# Altium footprint library 7Sigma.PcbLib: 1 footprints
Each footprint in its own frame and in the unit in brackets; x right, y up, seen from the top. Pads: shape width x height; smd on the part's side, far side on the other; paste and mask are expansions set on the pad; w line width, h text height; cw(c..) or ccw(c..) is an arc to the next point about the centre after c.
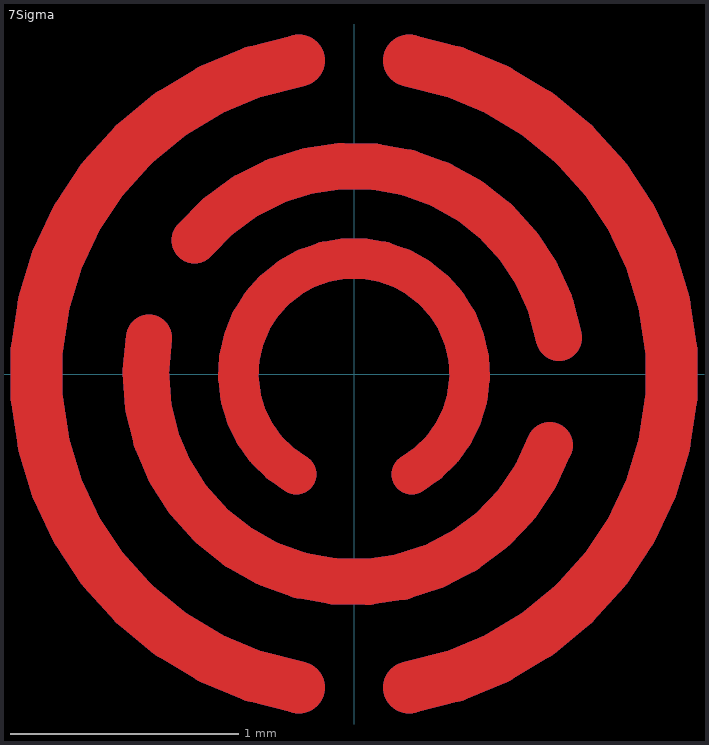
[diagram p0: the footprint, top view; thin cyan lines are the x and y axes]

## 7Sigma [mm]
Top Layer:
  lines w0.178: -0.254,-0.44 cw(c0,0) 0.254,-0.44 ccw(c0,0) -0.254,-0.44
  lines w0.203: -0.901,0.159 ccw(c0,0) 0.859,-0.313 cw(c0,0) -0.901,0.159 ; -0.7,0.588 cw(c0,0) 0.901,0.159 ccw(c0,0) -0.7,0.588
  lines w0.229: -0.243,-1.376 cw(c0,0) -0.243,1.376 ccw(c0,0) -0.243,-1.376 ; 0.243,-1.376 ccw(c0,0) 0.243,1.376 cw(c0,0) 0.243,-1.376
Bottom Layer:
  lines w0.178: -0.254,-0.44 cw(c0,0) 0.254,-0.44 ccw(c0,0) -0.254,-0.44
  lines w0.203: -0.901,0.159 ccw(c0,0) 0.859,-0.313 cw(c0,0) -0.901,0.159 ; -0.7,0.588 cw(c0,0) 0.901,0.159 ccw(c0,0) -0.7,0.588
  lines w0.229: -0.243,-1.376 cw(c0,0) -0.243,1.376 ccw(c0,0) -0.243,-1.376 ; 0.243,-1.376 ccw(c0,0) 0.243,1.376 cw(c0,0) 0.243,-1.376